# Altium schematic symbol library MCU.SchLib: 47 symbols
Pins are listed as number, name and electrical type; pins without a type are passive.

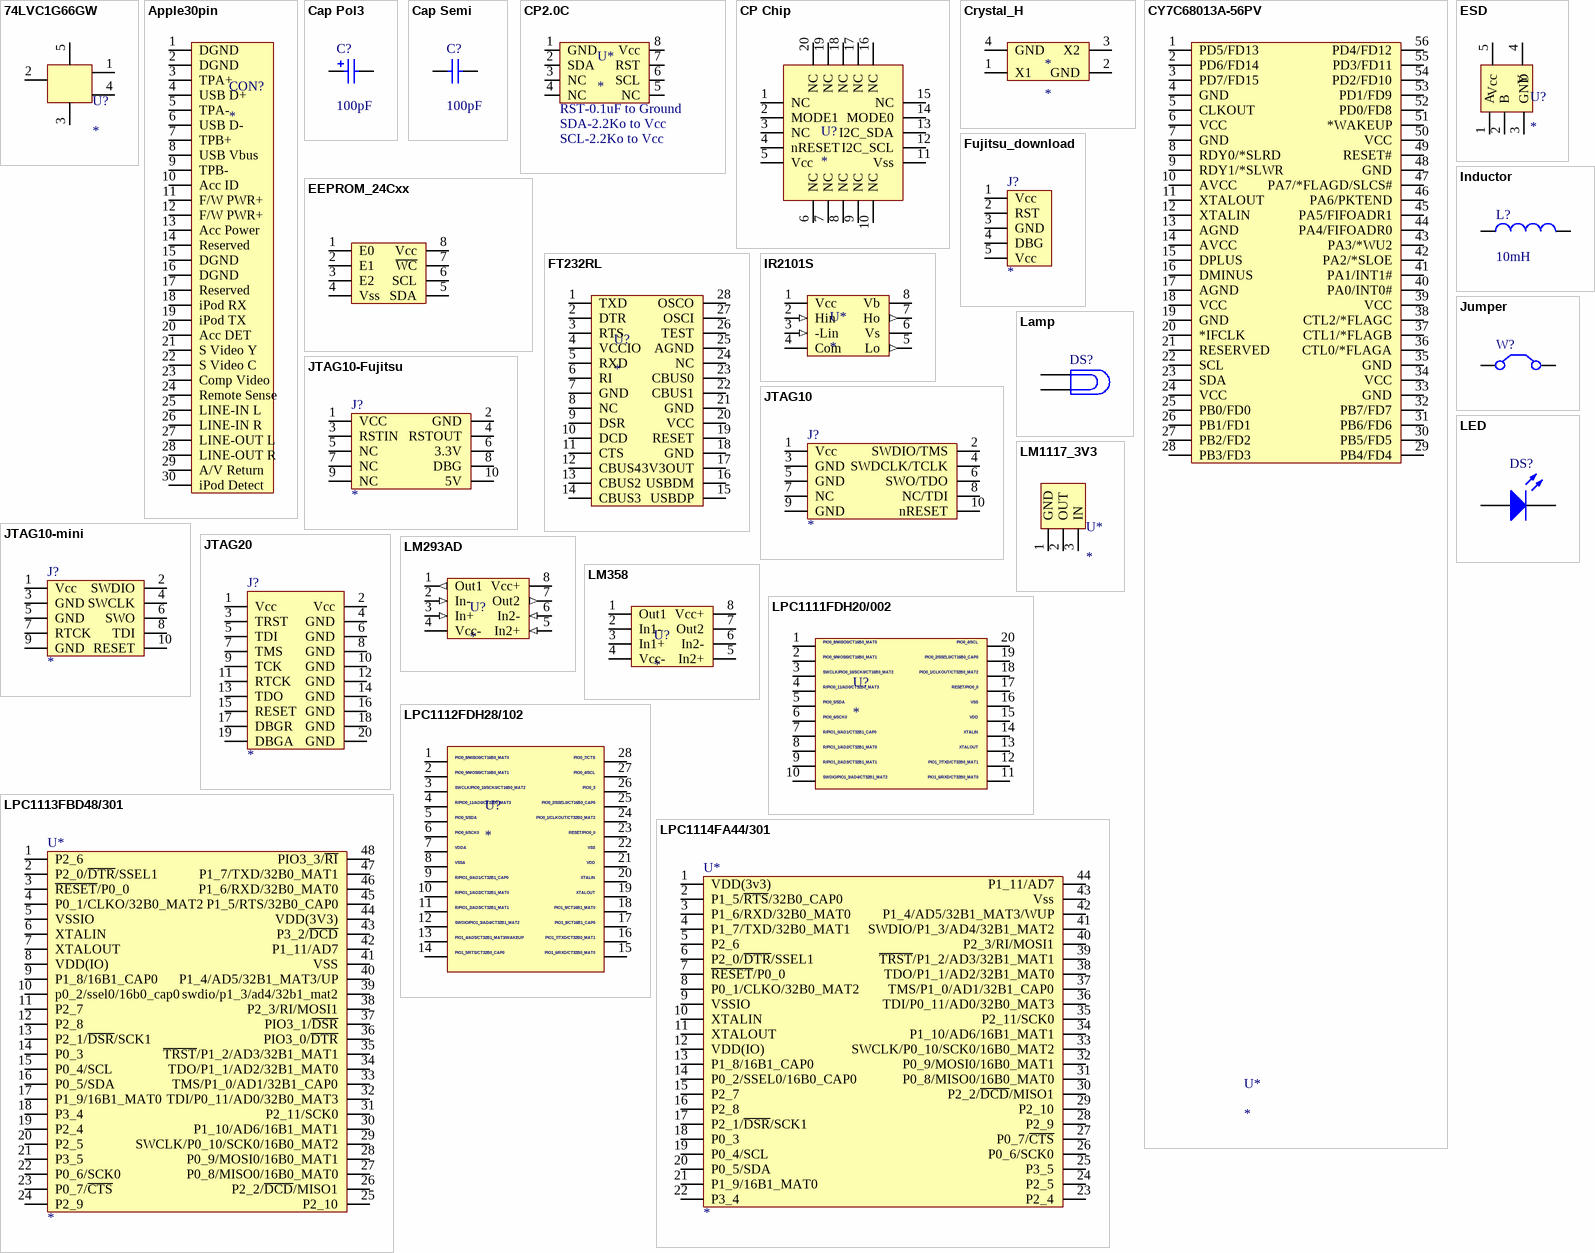
[diagram p0: symbols 74LVC1G66GW to LPC1114FA44/301]

## 74LVC1G66GW
designator U?
one single pole, single-throw analog switch function
footprint SOT89-5
footprint SOT353 (SOT-353/SC-88A; 5 Leads; Body 2.2 x 2.2 mm, inc. leads (LxW max))
pins: 1 Y, 2 Z, 3 GND, 4 E, 5 VCC

## Apple30pin
designator CON?
Apple 30Pin connector
footprint 30PIN
pins: 1 DGND, 2 DGND, 3 TPA+, 4 USB D+, 5 TPA-, 6 USB D-, 7 TPB+, 8 USB Vbus, 9 TPB-, 10 Acc ID, 11 F/W PWR+, 12 F/W PWR+, 13 Acc Power, 14 Reserved, 15 DGND, 16 DGND, 17 Reserved, 18 iPod RX, 19 iPod TX, 20 Acc DET, 21 S Video Y, 22 S Video C, 23 Comp Video, 24 Remote Sense, 25 LINE-IN L, 26 LINE-IN R, 27 LINE-OUT L, 28 LINE-OUT R, 29 A/V Return, 30 iPod Detect

## Cap Pol3
designator C?  value 100pF
Polarized Capacitor (Surface Mount); Published: 8-Jun-2000; LatestRevisionDate: 17-Jul-2002; LatestRevisionNote: Re-released for DXP Platform.; PackageReference: C0805; Publisher: Altium Limited
footprint CC2012-0805 (Chip Capacitor; Body 2.0 x 1.2 mm (LxW typ))
footprint CC4532-1812 (Chip Capacitor; Body 4.5 x 3.2 mm (LxW typ))
footprint CC4564-1825 (Chip Capacitor; Body 4.5 x 6.4 mm (LxW typ))
footprint CC5664-2225 (Chip Capacitor; Body 5.6 x 6.4 mm (LxW typ))
footprint CC5750-2220 (Chip Capacitor; Body 5.7 x 5.0 mm (LxW typ))
simulation model CAP (Capacitor)
signal-integrity model Cap Pol
pins: 1, 2
1 alternate drawing of the same symbol

## Cap Semi
designator C?  value 100pF
Capacitor (Semiconductor SIM Model); Published: 8-Jun-2000; LatestRevisionDate: 17-Jul-2002; LatestRevisionNote: Re-released for DXP Platform.; PackageReference: C1206; Publisher: Altium Limited
footprint CC3216-1206 (Chip Capacitor; Body 3.2 x 1.6 mm (LxW typ))
footprint CC1005-0402 (Chip Capacitor; Body 1.0 x 0.5 mm (LxW typ))
footprint CC1310-0504 (Chip Capacitor; Body 1.2 x 1.0 mm (LxW typ))
footprint CC1608-0603 (Chip Capacitor; Body 1.6 x 0.8 mm (LxW typ))
footprint CC3225-1210 (Chip Capacitor; Body 3.2 x 2.5 mm (LxW typ))
simulation model CAP (Semiconductor Capacitor)
signal-integrity model Cap Semi
pins: 1, 2

## CP2.0C
designator U*
footprint CP2.0
pins: 1 GND, 2 SDA, 3 NC, 4 NC, 5 NC, 6 SCL, 7 RST, 8 Vcc
text: RST-0.1uF to Ground; SDA-2.2Ko to Vcc; SCL-2.2Ko to Vcc

## CP Chip
designator U?
Apple Auth chip
footprint QFN20
pins: 1 NC, 2 MODE1, 3 NC, 4 nRESET, 5 Vcc, 6 NC, 7 NC, 8 NC, 9 NC, 10 NC, 11 Vss, 12 I2C_SCL, 13 I2C_SDA, 14 MODE0, 15 NC, 16 NC, 17 NC, 18 NC, 19 NC, 20 NC

## Crystal_H
designator *
pins: 1 X1, 2 GND, 3 X2, 4 GND

## CY7C68013A-56PV
designator U*
footprint O56 (SSOP; 56 Leads; Body Width 7.5 mm; Pitch 0.635 mm)
pins: 1 PD5/FD13, 2 PD6/FD14, 3 PD7/FD15, 4 GND, 5 CLKOUT, 6 VCC, 7 GND, 8 RDY0/*SLRD, 9 RDY1/*SLWR, 10 AVCC, 11 XTALOUT, 12 XTALIN, 13 AGND, 14 AVCC, 15 DPLUS, 16 DMINUS, 17 AGND, 18 VCC, 19 GND, 20 *IFCLK, 21 RESERVED, 22 SCL, 23 SDA, 24 VCC, 25 PB0/FD0, 26 PB1/FD1, 27 PB2/FD2, 28 PB3/FD3, 29 PB4/FD4, 30 PB5/FD5, 31 PB6/FD6, 32 PB7/FD7, 33 GND, 34 VCC, 35 GND, 36 CTL0/*FLAGA, 37 CTL1/*FLAGB, 38 CTL2/*FLAGC, 39 VCC, 40 PA0/INT0#, 41 PA1/INT1#, 42 PA2/*SLOE, 43 PA3/*WU2, 44 PA4/FIFOADR0, 45 PA5/FIFOADR1, 46 PA6/PKTEND, 47 PA7/*FLAGD/SLCS#, 48 GND, 49 RESET#, 50 VCC, 51 *WAKEUP, 52 PD0/FD8, 53 PD1/FD9, 54 PD2/FD10, 55 PD3/FD11, 56 PD4/FD12

## EEPROM_24Cxx
designator U*
footprint 8S1_N (8-Pin Small Outline Integrated Circuit 1.27 mm Pitch, IPC Medium Density)
pins: 1 E0, 2 E1, 3 E2, 4 Vss, 5 SDA, 6 SCL, 7 ~{WC}, 8 Vcc

## ESD
designator U?
pins: 1 A, 2 B, 3 GND, 4 Y, 5 Vcc

## FT232RL
designator U?
USB to COM port IC
footprint SSOP28 (Footprint not found)
pins: 1 TXD, 2 DTR, 3 RTS, 4 VCCIO, 5 RXD, 6 RI, 7 GND, 8 NC, 9 DSR, 10 DCD, 11 CTS, 12 CBUS4, 13 CBUS2, 14 CBUS3, 15 USBDP, 16 USBDM, 17 3V3OUT, 18 GND, 19 RESET, 20 VCC, 21 GND, 22 CBUS1, 23 CBUS0, 24 NC, 25 AGND, 26 TEST, 27 OSCI, 28 OSCO

## Fujitsu_download
designator J?
footprint HDR1X5
footprint HDR1X5H
pins: 1 Vcc, 2 RST, 3 GND, 4 DBG, 5 Vcc

## Inductor
designator L?  value 10mH
Inductor; Code_IEC: 1005; Published: 8-Jun-2000; LatestRevisionDate: 17-Jul-2002; LatestRevisionNote: Re-released for DXP Platform.; PackageReference: 0402-A; Publisher: Altium Limited; Code_JEITA: 0402
footprint INDC1005-0402 (Chip Inductor; Body 1 x 0.5 mm (LxW typ))
footprint INDC1608-0603 (Chip Inductor; Body 1.6 x 0.8 mm (LxW typ))
footprint INDC2010-0804 (2012 Chip; Chip Inductor; Body 2.0 x 1.2 mm (LxW typ))
footprint INDC2012-0805 (Chip Inductor; Body 2 x 1.2 mm (LxW typ))
footprint INDC3216-1206 (3216 Chip; Chip Inductor; Body 3.2 x 1.6 mm (LxW typ))
footprint INDC4510-1804 (4564 Chip; Chip Inductor; Body 4.5 x 6.4 mm (LxW typ))
simulation model INDUCTOR (Inductor)
signal-integrity model Inductor
pins: 1, 2

## IR2101S
designator U*
IR harlf-bridge drive
footprint SO8-2
pins: 1 Vcc, 2 Hin (in), 3 -Lin (in), 4 Com, 5 Lo (out), 6 Vs, 7 Ho (out), 8 Vb

## JTAG10
designator J?
footprint HDR2X5
pins: 1 Vcc, 2 SWDIO/TMS, 3 GND, 4 SWDCLK/TCLK, 5 GND, 6 SWO/TDO, 7 NC, 8 NC/TDI, 9 GND, 10 nRESET

## JTAG10-Fujitsu
designator J?
footprint HDR2X5
pins: 1 VCC, 2 GND, 3 RSTIN, 4 RSTOUT, 5 NC, 6 3.3V, 7 NC, 8 DBG, 9 NC, 10 5V

## JTAG10-mini
designator J?
pins: 1 Vcc, 2 SWDIO, 3 GND, 4 SWCLK, 5 GND, 6 SWO, 7 RTCK, 8 TDI, 9 GND, 10 RESET

## JTAG20
designator J?
footprint HDR2X10
pins: 1 Vcc, 2 Vcc, 3 TRST, 4 GND, 5 TDI, 6 GND, 7 TMS, 8 GND, 9 TCK, 10 GND, 11 RTCK, 12 GND, 13 TDO, 14 GND, 15 RESET, 16 GND, 17 DBGR, 18 GND, 19 DBGA, 20 GND

## Jumper
designator W?
Jumper Wire; Published: 24-Mar-1999; LatestRevisionDate: 17-Jul-2002; LatestRevisionNote: Re-released for DXP Platform.; Publisher: Altium Limited
footprint RAD-0.2 (Jumper Wire; 2 Leads)
pins: 1 C1, 2 C2

## Lamp
designator DS?
Incandescent Bulb; Published: 24-Mar-1999; LatestRevisionDate: 17-Jul-2002; LatestRevisionNote: Re-released for DXP Platform.; Publisher: Altium Limited
footprint PIN2 (Incandescent Bulb; 2 Leads)
pins: 1, 2

## LED
designator DS?
Typical RED, GREEN, YELLOW, AMBER GaAs LED; Published: 8-Jun-2000; LatestRevisionDate: 17-Jul-2002; LatestRevisionNote: Re-released for DXP Platform.; Publisher: Altium Limited
footprint DSO-F2/D6.1 (SMT LED; 2 Flat Leads)
simulation model LED2 (Diode)
pins: 1 A, 2 K

## LM293AD
designator U?
OP
footprint SO8-2
pins: 1 Out1 (out), 2 In- (in), 3 In+ (in), 4 Vcc-, 5 In2+ (in), 6 In2- (in), 7 Out2 (out), 8 Vcc+

## LM358
designator U?
OP
footprint SO8-2
pins: 1 Out1, 2 In1-, 3 In1+, 4 Vcc-, 5 In2+, 6 In2-, 7 Out2, 8 Vcc+

## LM1117_3V3
designator U*
pins: 1 GND, 2 OUT, 3 IN

## LPC1111FDH20/002
designator U?
NXP corte-m0 MCU
footprint TSSOP20 (Shrink Small Outline; 20 Leads; Body Width 4.4 mm; Pitch 0.65 mm)
pins: 1, 2, 3, 4, 5, 6, 7, 8, 9, 10, 11, 12, 13, 14, 15, 16, 17, 18, 19, 20
text: PIO0_8/MISO0/CT16B0_MAT0; PIO0_4/SCL; PIO0_9/MOSI0/CT16B0_MAT1; PIO0_2/SSEL0/CT16B0_CAP0; SWCLK/PIO0_10/SCK0/CT16B0_MAT2; PIO0_1/CLKOUT/CT32B0_MAT2; R/PIO0_11/AD0/CT32B0_MAT3; RESET/PIO0_0; PIO0_5/SDA; VSS; PIO0_6/SCK0; VDD; R/PIO1_0/AD1/CT32B1_CAP0; XTALIN; R/PIO1_1/AD2/CT32B1_MAT0; XTALOUT; R/PIO1_2/AD3/CT32B1_MAT1; PIO1_7/TXD/CT32B0_MAT1; SWDIO/PIO1_3/AD4/CT32B1_MAT2; PIO1_6/RXD/CT32B0_MAT0

## LPC1112FDH28/102
designator U?
NXP cortex-m0 MCU
pins: 1, 2, 3, 4, 5, 6, 7, 8, 9, 10, 11, 12, 13, 14, 15, 16, 17, 18, 19, 20, 21, 22, 23, 24, 25, 26, 27, 28
text: PIO0_8/MISO0/CT16B0_MAT0; PIO0_7/CTS; PIO0_9/MOSI0/CT16B0_MAT1; PIO0_4/SCL; SWCLK/PIO0_10/SCK0/CT16B0_MAT2; PIO0_3; R/PIO0_11/AD0/CT32B0_MAT3; PIO0_2/SSEL0/CT16B0_CAP0; PIO0_5/SDA; PIO0_1/CLKOUT/CT32B0_MAT2; PIO0_6/SCK0; RESET/PIO0_0; VDDA; VSS; VSSA; VDD; R/PIO1_0/AD1/CT32B1_CAP0; XTALIN; R/PIO1_1/AD2/CT32B1_MAT0; XTALOUT; R/PIO1_2/AD3/CT32B1_MAT1; PIO1_9/CT16B1_MAT0; SWDIO/PIO1_3/AD4/CT32B1_MAT2; PIO1_8/CT16B1_CAP0; PIO1_4/AD5/CT32B1_MAT3/WAKEUP; PIO1_7/TXD/CT32B0_MAT1; PIO1_5/RTS/CT32B0_CAP0; PIO1_6/RXD/CT32B0_MAT0

## LPC1113FBD48/301
designator U*
footprint LQFP48
pins: 1 P2_6, 2 P2_0/~{DTR}/SSEL1, 3 ~{RESET}/P0_0, 4 P0_1/CLKO/32B0_MAT2, 5 VSSIO, 6 XTALIN, 7 XTALOUT, 8 VDD(IO), 9 P1_8/16B1_CAP0, 10 p0_2/ssel0/16b0_cap0, 11 P2_7, 12 P2_8, 13 P2_1/~{DSR}/SCK1, 14 P0_3, 15 P0_4/SCL, 16 P0_5/SDA, 17 P1_9/16B1_MAT0, 18 P3_4, 19 P2_4, 20 P2_5, 21 P3_5, 22 P0_6/SCK0, 23 P0_7/~{CTS}, 24 P2_9, 25 P2_10, 26 P2_2/~{DCD}/MISO1, 27 P0_8/MISO0/16B0_MAT0, 28 P0_9/MOSI0/16B0_MAT1, 29 SWCLK/P0_10/SCK0/16B0_MAT2, 30 P1_10/AD6/16B1_MAT1, 31 P2_11/SCK0, 32 TDI/P0_11/AD0/32B0_MAT3, 33 TMS/P1_0/AD1/32B1_CAP0, 34 TDO/P1_1/AD2/32B1_MAT0, 35 ~{TRST}/P1_2/AD3/32B1_MAT1, 36 PIO3_0/~{DTR}, 37 PIO3_1/~{DSR}, 38 P2_3/RI/MOSI1, 39 swdio/p1_3/ad4/32b1_mat2, 40 P1_4/AD5/32B1_MAT3/UP, 41 VSS, 42 P1_11/AD7, 43 P3_2/~{DCD}, 44 VDD(3V3), 45 P1_5/RTS/32B0_CAP0, 46 P1_6/RXD/32B0_MAT0, 47 P1_7/TXD/32B0_MAT1, 48 PIO3_3/~{RI}

## LPC1114FA44/301
designator U*
footprint PLCC44
pins: 1 VDD(3v3), 2 P1_5/~{RTS}/32B0_CAP0, 3 P1_6/RXD/32B0_MAT0, 4 P1_7/TXD/32B0_MAT1, 5 P2_6, 6 P2_0/~{DTR}/SSEL1, 7 ~{RESET}/P0_0, 8 P0_1/CLKO/32B0_MAT2, 9 VSSIO, 10 XTALIN, 11 XTALOUT, 12 VDD(IO), 13 P1_8/16B1_CAP0, 14 P0_2/SSEL0/16B0_CAP0, 15 P2_7, 16 P2_8, 17 P2_1/~{DSR}/SCK1, 18 P0_3, 19 P0_4/SCL, 20 P0_5/SDA, 21 P1_9/16B1_MAT0, 22 P3_4, 23 P2_4, 24 P2_5, 25 P3_5, 26 P0_6/SCK0, 27 P0_7/~{CTS}, 28 P2_9, 29 P2_10, 30 P2_2/~{DCD}/MISO1, 31 P0_8/MISO0/16B0_MAT0, 32 P0_9/MOSI0/16B0_MAT1, 33 SWCLK/P0_10/SCK0/16B0_MAT2, 34 P1_10/AD6/16B1_MAT1, 35 P2_11/SCK0, 36 TDI/P0_11/AD0/32B0_MAT3, 37 TMS/P1_0/AD1/32B1_CAP0, 38 TDO/P1_1/AD2/32B1_MAT0, 39 ~{TRST}/P1_2/AD3/32B1_MAT1, 40 P2_3/RI/MOSI1, 41 SWDIO/P1_3/AD4/32B1_MAT2, 42 P1_4/AD5/32B1_MAT3/WUP, 43 Vss, 44 P1_11/AD7

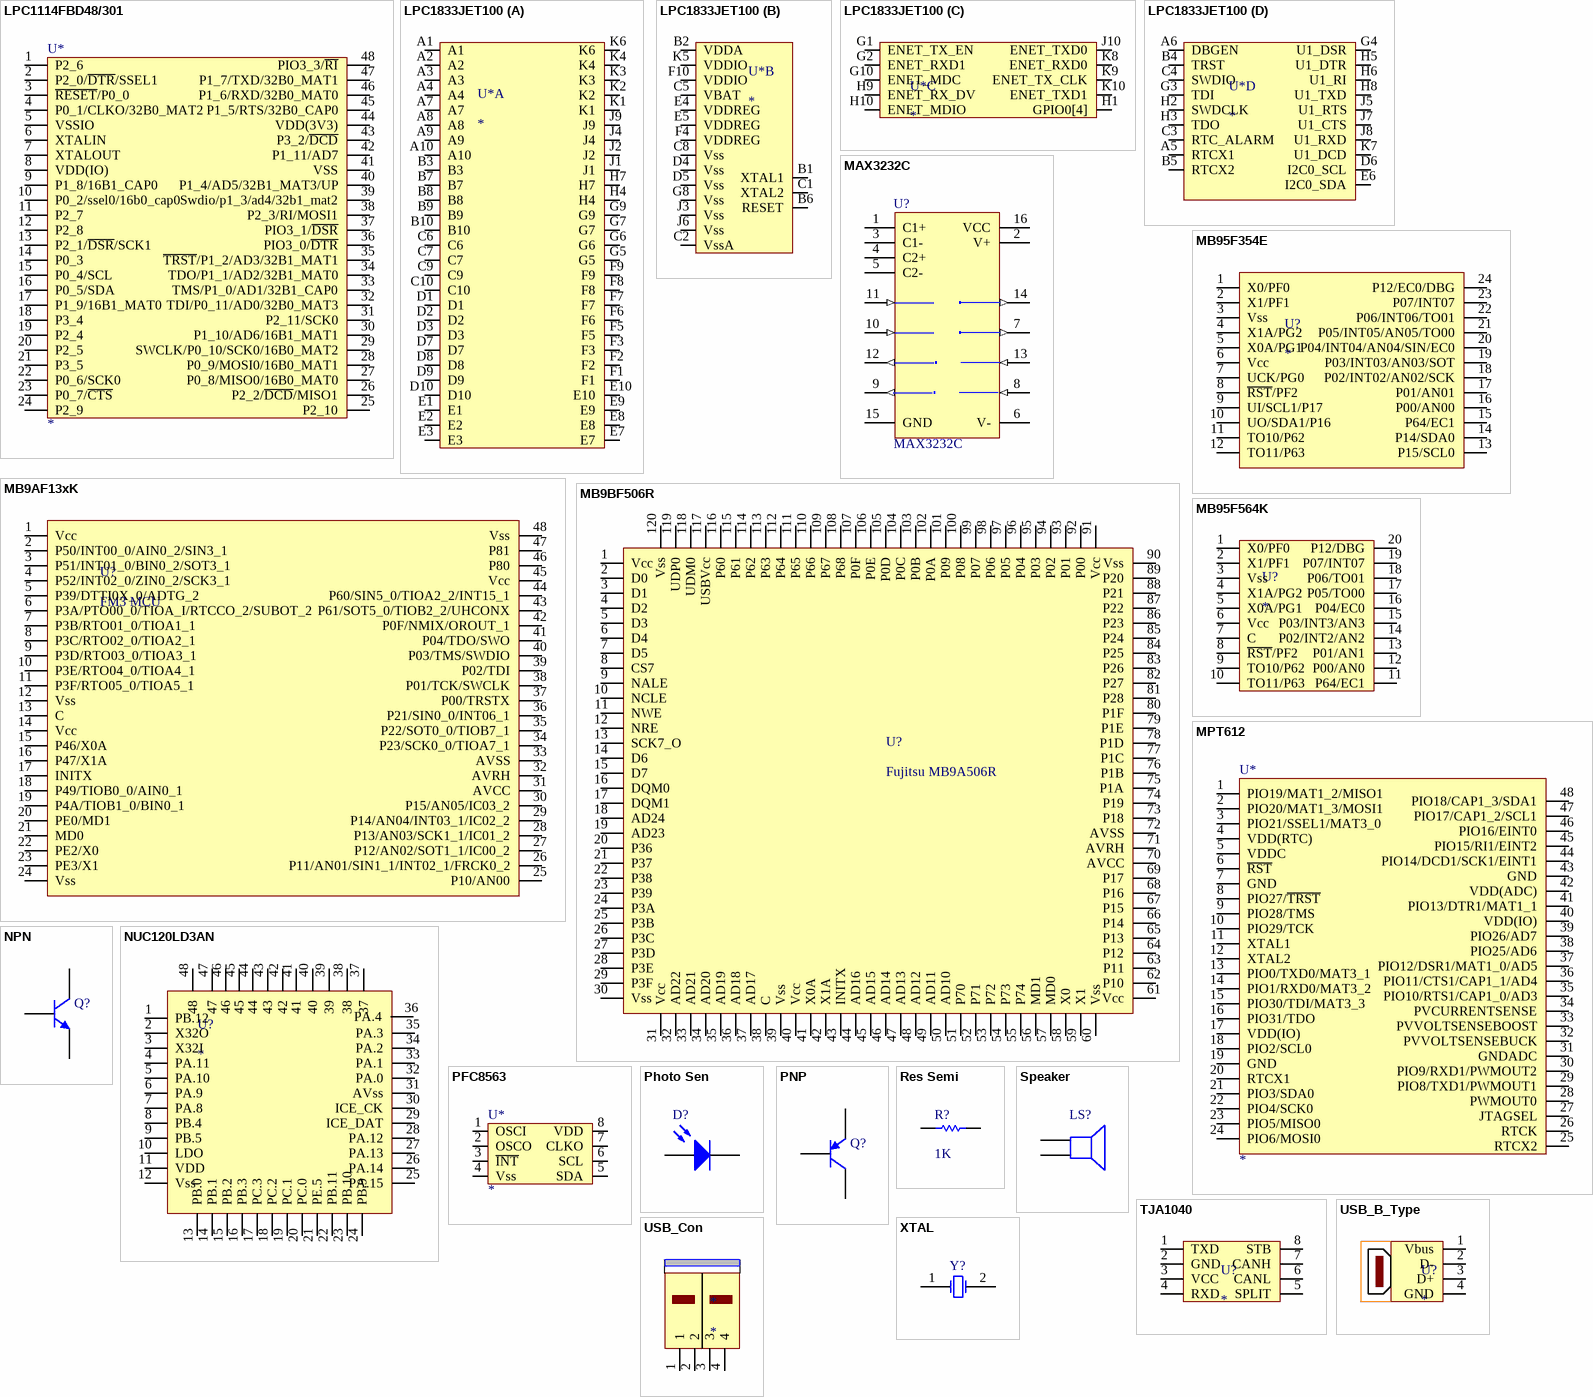
[diagram p1: symbols LPC1114FBD48/301 to XTAL]

## LPC1114FBD48/301
designator U*
footprint LQFP48
pins: 1 P2_6, 2 P2_0/~{DTR}/SSEL1, 3 ~{RESET}/P0_0, 4 P0_1/CLKO/32B0_MAT2, 5 VSSIO, 6 XTALIN, 7 XTALOUT, 8 VDD(IO), 9 P1_8/16B1_CAP0, 10 P0_2/ssel0/16b0_cap0, 11 P2_7, 12 P2_8, 13 P2_1/~{DSR}/SCK1, 14 P0_3, 15 P0_4/SCL, 16 P0_5/SDA, 17 P1_9/16B1_MAT0, 18 P3_4, 19 P2_4, 20 P2_5, 21 P3_5, 22 P0_6/SCK0, 23 P0_7/~{CTS}, 24 P2_9, 25 P2_10, 26 P2_2/~{DCD}/MISO1, 27 P0_8/MISO0/16B0_MAT0, 28 P0_9/MOSI0/16B0_MAT1, 29 SWCLK/P0_10/SCK0/16B0_MAT2, 30 P1_10/AD6/16B1_MAT1, 31 P2_11/SCK0, 32 TDI/P0_11/AD0/32B0_MAT3, 33 TMS/P1_0/AD1/32B1_CAP0, 34 TDO/P1_1/AD2/32B1_MAT0, 35 ~{TRST}/P1_2/AD3/32B1_MAT1, 36 PIO3_0/~{DTR}, 37 PIO3_1/~{DSR}, 38 P2_3/RI/MOSI1, 39 Swdio/p1_3/ad4/32b1_mat2, 40 P1_4/AD5/32B1_MAT3/UP, 41 VSS, 42 P1_11/AD7, 43 P3_2/~{DCD}, 44 VDD(3V3), 45 P1_5/RTS/32B0_CAP0, 46 P1_6/RXD/32B0_MAT0, 47 P1_7/TXD/32B0_MAT1, 48 PIO3_3/~{RI}

## LPC1833JET100
designator U*
NXP LPC1800 series MCU
footprint TFBGA100
part A pins: A1, A2, A3, A4, A7, A8, A9, A10, B3, B7, B8, B9, B10, C6, C7, C9, C10, D1, D2, D3, D7, D8, D9, D10, E1, E2, E3, E7, E8, E9, E10, F1, F2, F3, F5, F6, F7, F8, F9, G5, G6, G7, G9, H4, H7, J1, J2, J4, J9, K1, K2, K3, K4, K6
part B pins: B1 XTAL1, B2 VDDA, B6 RESET, C1 XTAL2, C2 VssA, C5 VBAT, C8 Vss, D4 Vss, D5 Vss, E4 VDDREG, E5 VDDREG, F4 VDDREG, F10 VDDIO, G8 Vss, J3 Vss, J6 Vss, K5 VDDIO
part C pins: G1 ENET_TX_EN, G2 ENET_RXD1, G10 ENET_MDC, H1 GPIO0[4], H9 ENET_RX_DV, H10 ENET_MDIO, J10 ENET_TXD0, K8 ENET_RXD0, K9 ENET_TX_CLK, K10 ENET_TXD1
part D pins: A5 RTCX1, A6 DBGEN, B4 TRST, B5 RTCX2, C3 RTC_ALARM, C4 SWDIO, D6 I2C0_SCL, E6 I2C0_SDA, G3 TDI, G4 U1_DSR, H2 SWDCLK, H3 TDO, H5 U1_DTR, H6 U1_RI, H8 U1_TXD, J5 U1_RTS, J7 U1_CTS, J8 U1_RXD, K7 U1_DCD

## MAX3232C
designator U?
3.0V TO 5.5V, Low-Power, up to 1Mbps, True RS-232 Transceiver Using Four 0.1礔 External Capacitor; Published: 16-Jan-2001; LatestRevisionDate: 29-May-2009; LatestRevisionNote: IPC-7351 Footprint Added.; DatasheetVersion: Mar-1999; PackageVersion: 21-0066 C; PackageReference: TSSOP16; Publisher: Altium Limited; PackageDescription: 16-Pin Thin Small Outline Package 0.65 mm Pitch; ComponentLink1Description: Manufacturer Link; ComponentLink1URL: http://www.maxim-ic.com/; ComponentLink2Description: Datasheet; ComponentLink2URL: http://pdfserv.maxim-ic.com/en/ds/MAX3222-MAX3241.pdf
footprint TSSOP16_N (TSOP, 16-Leads, Body 5x4.4mm, Pitch 0.65mm, IPC Medium Density)
footprint TSSOP16_L (TSOP, 16-Leads, Body 5x4.4mm, Pitch 0.65mm, IPC High Density)
footprint TSSOP16_M (TSOP, 16-Leads, Body 5x4.4mm, Pitch 0.65mm, IPC Low Density)
3D model TSSOP16 (16-Pin Thin Small Outline Package 0.65 mm Pitch)
pins: 1 C1+, 2 V+ (power), 3 C1-, 4 C2+, 5 C2-, 6 V- (power), 7 T2OUT (out), 8 R2IN (in), 9 R2OUT (out), 10 T2IN (in), 11 T1IN (in), 12 R1OUT (out), 13 R1IN (in), 14 T1OUT (out), 15 GND (power), 16 VCC (power)

## MB9AF13xK
designator U?, comment FM3 MCU
Spansion FM3 MCU
footprint LQFP48_2
pins: 1 Vcc, 2 P50/INT00_0/AIN0_2/SIN3_1, 3 P51/INT01_0/BIN0_2/SOT3_1, 4 P52/INT02_0/ZIN0_2/SCK3_1, 5 P39/DTTI0X_0/ADTG_2, 6 P3A/PTO00_0/TIOA_I/RTCCO_2/SUBOT_2, 7 P3B/RTO01_0/TIOA1_1, 8 P3C/RTO02_0/TIOA2_1, 9 P3D/RTO03_0/TIOA3_1, 10 P3E/RTO04_0/TIOA4_1, 11 P3F/RTO05_0/TIOA5_1, 12 Vss, 13 C, 14 Vcc, 15 P46/X0A, 16 P47/X1A, 17 INITX, 18 P49/TIOB0_0/AIN0_1, 19 P4A/TIOB1_0/BIN0_1, 20 PE0/MD1, 21 MD0, 22 PE2/X0, 23 PE3/X1, 24 Vss, 25 P10/AN00, 26 P11/AN01/SIN1_1/INT02_1/FRCK0_2, 27 P12/AN02/SOT1_1/IC00_2, 28 P13/AN03/SCK1_1/IC01_2, 29 P14/AN04/INT03_1/IC02_2, 30 P15/AN05/IC03_2, 31 AVCC, 32 AVRH, 33 AVSS, 34 P23/SCK0_0/TIOA7_1, 35 P22/SOT0_0/TIOB7_1, 36 P21/SIN0_0/INT06_1, 37 P00/TRSTX, 38 P01/TCK/SWCLK, 39 P02/TDI, 40 P03/TMS/SWDIO, 41 P04/TDO/SWO, 42 P0F/NMIX/OROUT_1, 43 P61/SOT5_0/TIOB2_2/UHCONX, 44 P60/SIN5_0/TIOA2_2/INT15_1, 45 Vcc, 46 P80, 47 P81, 48 Vss

## MB9BF506R
designator U?, comment Fujitsu MB9A506R
Fujitsu Cortex-M3 core MCU
footprint LQFP120
pins: 1 Vcc, 2 D0, 3 D1, 4 D2, 5 D3, 6 D4, 7 D5, 8 CS7, 9 NALE, 10 NCLE, 11 NWE, 12 NRE, 13 SCK7_O, 14 D6, 15 D7, 16 DQM0, 17 DQM1, 18 AD24, 19 AD23, 20 P36, 21 P37, 22 P38, 23 P39, 24 P3A, 25 P3B, 26 P3C, 27 P3D, 28 P3E, 29 P3F, 30 Vss, 31 Vcc, 32 AD22, 33 AD21, 34 AD20, 35 AD19, 36 AD18, 37 AD17, 38 C, 39 Vss, 40 Vcc, 41 X0A, 42 X1A, 43 INITX, 44 AD16, 45 AD15, 46 AD14, 47 AD13, 48 AD12, 49 AD11, 50 AD10, 51 P70, 52 P71, 53 P72, 54 P73, 55 P74, 56 MD1, 57 MD0, 58 X0, 59 X1, 60 Vss, 61 Vcc, 62 P10, 63 P11, 64 P12, 65 P13, 66 P14, 67 P15, 68 P16, 69 P17, 70 AVCC, 71 AVRH, 72 AVSS, 73 P18, 74 P19, 75 P1A, 76 P1B, 77 P1C, 78 P1D, 79 P1E, 80 P1F, 81 P28, 82 P27, 83 P26, 84 P25, 85 P24, 86 P23, 87 P22, 88 P21, 89 P20, 90 Vss, 91 Vcc, 92 P00, 93 P01, 94 P02, 95 P03, 96 P04, 97 P05, 98 P06, 99 P07, 100 P08, 101 P09, 102 P0A, 103 P0B, 104 P0C, 105 P0D, 106 P0E, 107 P0F, 108 P68, 109 P67, 110 P66, 111 P65, 112 P64, 113 P63, 114 P62, 115 P61, 116 P60, 117 USBVcc, 118 UDM0, 119 UDP0, 120 Vss

## MB95F354E
designator U?
Fujitsu 8FX MCU
footprint TSSOP24 (Shrink Small Outline; 24 Leads; Body Width 4.4 mm; Pitch 0.65 mm)
pins: 1 X0/PF0, 2 X1/PF1, 3 Vss, 4 X1A/PG2, 5 X0A/PG1, 6 Vcc, 7 UCK/PG0, 8 ~{RST}/PF2, 9 UI/SCL1/P17, 10 UO/SDA1/P16, 11 TO10/P62, 12 TO11/P63, 13 P15/SCL0, 14 P14/SDA0, 15 P64/EC1, 16 P00/AN00, 17 P01/AN01, 18 P02/INT02/AN02/SCK, 19 P03/INT03/AN03/SOT, 20 P04/INT04/AN04/SIN/EC0, 21 P05/INT05/AN05/TO00, 22 P06/INT06/TO01, 23 P07/INT07, 24 P12/EC0/DBG

## MB95F564K
designator U?
footprint TSSOP20 (Footprint not found)
pins: 1 X0/PF0, 2 X1/PF1, 3 Vss, 4 X1A/PG2, 5 X0A/PG1, 6 Vcc, 7 C, 8 ~{RST}/PF2, 9 TO10/P62, 10 TO11/P63, 11 P64/EC1, 12 P00/AN0, 13 P01/AN1, 14 P02/INT2/AN2, 15 P03/INT3/AN3, 16 P04/EC0, 17 P05/TO00, 18 P06/TO01, 19 P07/INT07, 20 P12/DBG

## MPT612
designator U*
footprint LQFP64
pins: 1 PIO19/MAT1_2/MISO1, 2 PIO20/MAT1_3/MOSI1, 3 PIO21/SSEL1/MAT3_0, 4 VDD(RTC), 5 VDDC, 6 ~{RST}, 7 GND, 8 PIO27/~{TRST}, 9 PIO28/TMS, 10 PIO29/TCK, 11 XTAL1, 12 XTAL2, 13 PIO0/TXD0/MAT3_1, 14 PIO1/RXD0/MAT3_2, 15 PIO30/TDI/MAT3_3, 16 PIO31/TDO, 17 VDD(IO), 18 PIO2/SCL0, 19 GND, 20 RTCX1, 21 PIO3/SDA0, 22 PIO4/SCK0, 23 PIO5/MISO0, 24 PIO6/MOSI0, 25 RTCX2, 26 RTCK, 27 JTAGSEL, 28 PWMOUT0, 29 PIO8/TXD1/PWMOUT1, 30 PIO9/RXD1/PWMOUT2, 31 GNDADC, 32 PVVOLTSENSEBUCK, 33 PVVOLTSENSEBOOST, 34 PVCURRENTSENSE, 35 PIO10/RTS1/CAP1_0/AD3, 36 PIO11/CTS1/CAP1_1/AD4, 37 PIO12/DSR1/MAT1_0/AD5, 38 PIO25/AD6, 39 PIO26/AD7, 40 VDD(IO), 41 PIO13/DTR1/MAT1_1, 42 VDD(ADC), 43 GND, 44 PIO14/DCD1/SCK1/EINT1, 45 PIO15/RI1/EINT2, 46 PIO16/EINT0, 47 PIO17/CAP1_2/SCL1, 48 PIO18/CAP1_3/SDA1

## NPN
designator Q?
NPN Bipolar Transistor; Published: 8-Jun-2000; LatestRevisionDate: 17-Jul-2002; LatestRevisionNote: Re-released for DXP Platform.; Publisher: Altium Limited; Code_JEDEC: TO-226-AA
footprint BCY-W3 (TO, Flat Index; 3 In-Line, Axial Leads; Body Dia. 4.8mm)
simulation model NPN
signal-integrity model NPN
pins: 1 C, 2 B, 3 E

## NUC120LD3AN
designator U?
footprint LQFP48
pins: 1 PB.12, 2 X32O, 3 X32I, 4 PA.11, 5 PA.10, 6 PA.9, 7 PA.8, 8 PB.4, 9 PB.5, 10 LDO, 11 VDD, 12 Vss, 13 PB.0, 14 PB.1, 15 PB.2, 16 PB.3, 17 PC.3, 18 PC.2, 19 PC.1, 20 PC.0, 21 PE.5, 22 PB.11, 23 PB.10, 24 PB.9, 25 PA.15, 26 PA.14, 27 PA.13, 28 PA.12, 29 ICE_DAT, 30 ICE_CK, 31 AVss, 32 PA.0, 33 PA.1, 34 PA.2, 35 PA.3, 36 PA.4, 37, 38, 39, 40, 41, 42, 43, 44, 45, 46, 47, 48

## PFC8563
designator U*
footprint SO8
pins: 1 OSCI, 2 OSCO, 3 ~{INT}, 4 Vss, 5 SDA, 6 SCL, 7 CLKO, 8 VDD

## Photo Sen
designator D?
Photosensitive Diode; Published: 24-Mar-1999; LatestRevisionDate: 17-Jul-2002; LatestRevisionNote: Re-released for DXP Platform.; Publisher: Altium Limited
footprint PIN2 (Photosensitive Diode; 2 Leads)
pins: 1 A, 2 K

## PNP
designator Q?
PNP Bipolar Transistor; Published: 8-Jun-2000; LatestRevisionDate: 17-Jul-2002; LatestRevisionNote: Re-released for DXP Platform.; Publisher: Altium Limited; Code_JEDEC: SOT-23
footprint SO-G3/C2.5 (SOT-23; 3 Leads; Body 3.0 x 2.6 mm, inc. leads (LxW max))
simulation model PNP
signal-integrity model PNP
pins: 1 C, 2 B, 3 E

## Res Semi
designator R?  value 1K
Semiconductor Resistor; Published: 8-Jun-2000; LatestRevisionDate: 17-Jul-2002; LatestRevisionNote: Re-released for DXP Platform.; Publisher: Altium Limited
footprint AXIAL-0.5 (Semiconductor Resistor; 2 Leads)
footprint CR1005-0402 (Chip Resistor; Body 1.1 x 0.5 mm (LxW typ))
footprint CR1608-0603 (Chip Resistor; Body 1.6 x 0.8 mm (LxW typ))
footprint CR2012-0805 (Chip Resistor; Body 2.0 x 1.3 mm (LxW typ))
footprint CR3216-1206 (Chip Resistor; Body 3.2 x 1.6 mm (LxW typ))
simulation model RES (Semiconductor Resistor)
signal-integrity model Res Semi
pins: 1, 2

## Speaker
designator LS?
Loudspeaker; Published: 24-Mar-1999; LatestRevisionDate: 17-Jul-2002; LatestRevisionNote: Re-released for DXP Platform.; Publisher: Altium Limited
footprint PIN2 (Loudspeaker; 2 Leads)
pins: 1, 2

## TJA1040
designator U?
CAN Driver
footprint SO8-2
pins: 1 TXD, 2 GND, 3 VCC, 4 RXD, 5 SPLIT, 6 CANL, 7 CANH, 8 STB

## USB_B_Type
designator U?
footprint USB_BTYPE
pins: 1 Vbus, 2 D-, 3 D+, 4 GND

## USB_Con
designator *
pins: 1, 2, 3, 4

## XTAL
designator Y?
Crystal Oscillator; Published: 8-Jun-2000; LatestRevisionDate: 17-Jul-2002; LatestRevisionNote: Re-released for DXP Platform.; Publisher: Altium Limited
footprint BCY-W2/D3.1 (Crystal, Thru-Hole; 2 Leads; Body 3.1 x 8.2 mm (Dia.xH))
simulation model XTAL (Spice Subcircuit)
pins: 1 OSC1, 2 OSC2